# Altium footprint library 按键.PcbLib: 10 footprints
Each footprint in its own frame and in the unit in brackets; x right, y up, seen from the top. Pads: shape width x height; smd on the part's side, far side on the other; paste and mask are expansions set on the pad; w line width, h text height; cw(c..) or ccw(c..) is an arc to the next point about the centre after c.
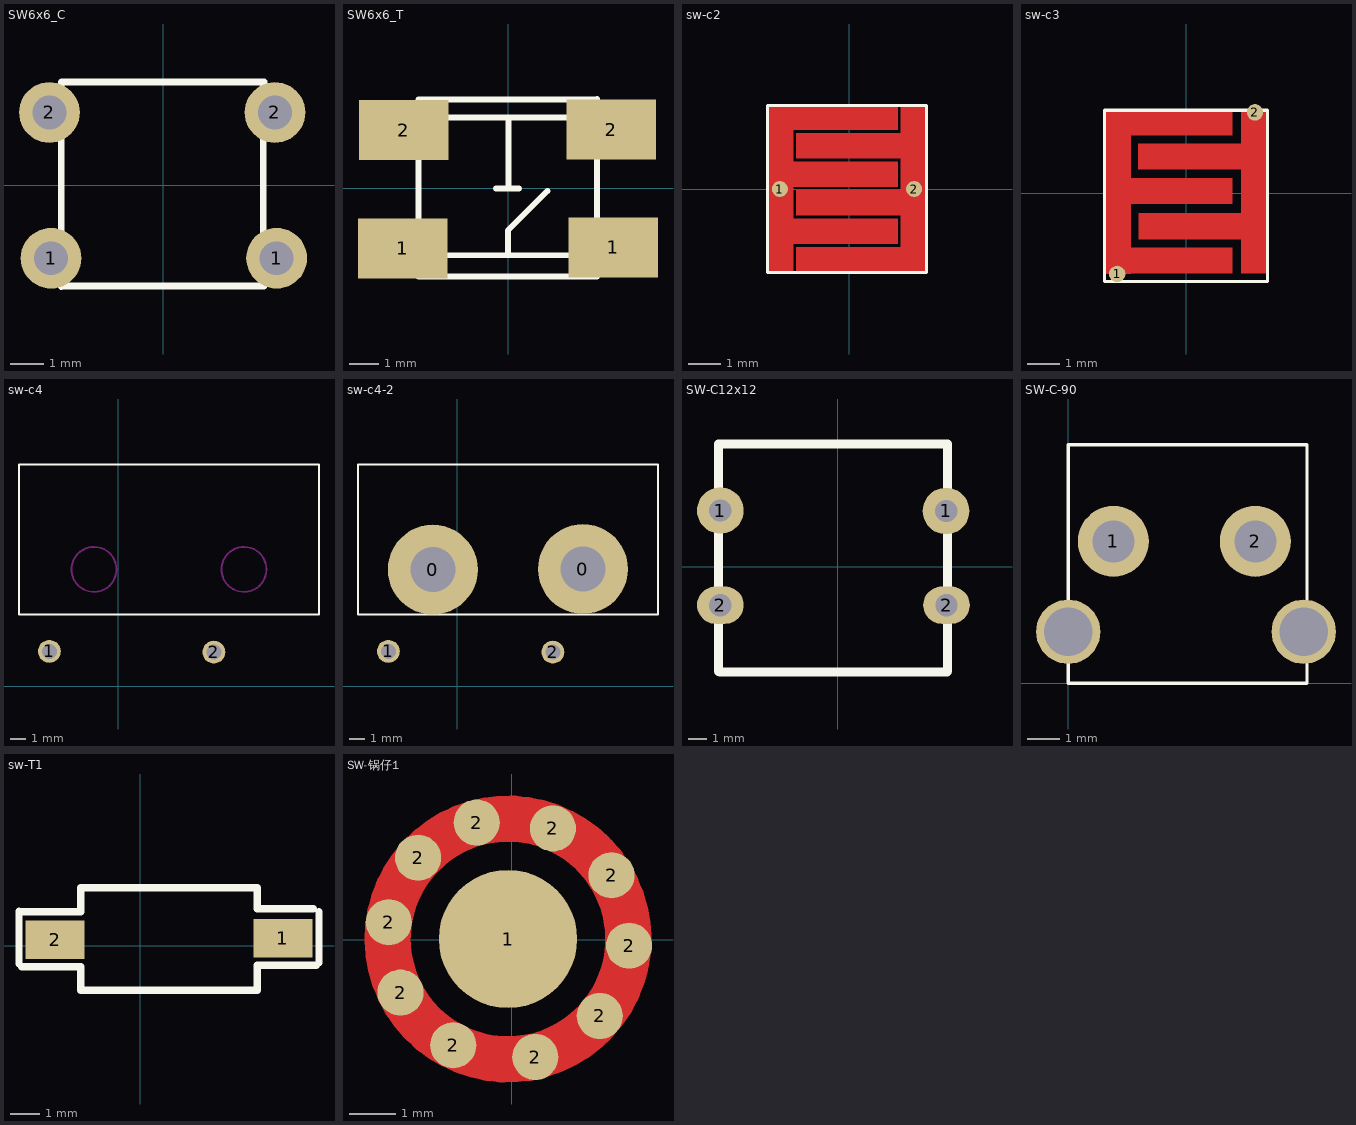
[diagram p0: the footprints below, top view; thin cyan lines are the x and y axes]

## SW6x6_C [mm]
pads (4):
  round 1.8 hole 1: 1(-3.314,-2.157) 1(3.365,-2.157) 2(-3.365,2.157) 2(3.314,2.157)
Top Overlay:
  lines w0.2: -3.013,-3.007 -3.013,2.993 ; -3.006,-2.979 2.994,-2.979 ; -3.004,3.057 2.996,3.057 ; 2.972,-2.952 2.972,3.048

## SW6x6_T [mm]
pads (4):
  rect 3x2 smd: 1(-3.55,-2.016) 1(3.524,-1.982) 2(-3.516,1.962) 2(3.456,1.979)
Top Overlay:
  lines w0.2: -2.963,2.38 2.921,2.38 ; -2.948,-2.243 2.885,-2.243 ; -0.419,0 0.356,0 ; -0.014,-2.184 -0.014,-1.405 1.307,-0.084 ; 0,0 0,2.25 ; 0,0.057 0,2.168 ; 2.929,2.993 -3.013,2.993 -3.013,-2.952 2.972,-2.952 2.972,3

## sw-c2 [mm]
pads (2):
  round 0.5 smd: 1(-2.159,0) 2(2.032,0)
Top Layer:
  rectangle: -1.905,1.841 1.524,2.603
  region: 2.413,-2.603 2.413,2.604 1.613,2.604 1.613,-2.603
  rectangle: -1.651,0.953 2.032,1.753
  rectangle: -1.778,0.064 1.524,0.864
  rectangle: -1.651,-0.826 2.159,-0.025
  rectangle: -1.778,-1.714 1.524,-0.914
  rectangle: -1.651,-2.603 2.159,-1.803
  region: -1.74,-2.603 -1.74,2.604 -2.54,2.604 -2.54,-2.603
Top Overlay:
  lines w0.1: -2.54,-2.603 -2.54,2.603 -2.413,2.603 2.413,2.603 2.413,-2.603 -2.54,-2.603

## sw-c3 [mm]
pads (2):
  round 0.5 smd: 1(-2.095,-2.456) 2(2.095,2.456)
Top Layer:
  rectangle: -1.459,0.714 1.843,1.514
  region: -1.677,-2.452 -1.677,2.52 -2.477,2.52 -2.477,-2.452
  rectangle: -1.442,-1.404 1.86,-0.604
  rectangle: -2.392,-2.449 1.418,-1.649
  rectangle: -1.884,-0.332 1.418,0.468
  region: 2.476,-2.445 2.476,2.52 1.676,2.52 1.676,-2.445
  rectangle: -1.841,1.757 1.415,2.519
Top Overlay:
  lines w0.1: -2.476,-2.688 2.476,-2.688 2.476,2.519 -2.349,2.519 -2.476,2.519 -2.476,-2.688
Top Solder:
  rectangle: -2.959,-2.816 2.836,3.069

## sw-c4 [mil]
pads (2):
  round 60 hole 39.37: 1(-180.35,91.02) 2(251.38,88.9)
Top Overlay:
  circle w5: c-181.29,89.54 r15.75
  circle w5: c251.78,89.54 r15.75
  lines w5: -260.03,187.97 527.37,187.97 527.37,581.67 -260.03,581.67 -260.03,187.97
Keep-Out Layer:
  circle w5: c330.52,306.08 r59.06
  circle w5: c-63.18,306.08 r59.06

## sw-c4-2 [mm]
pads (4):
  round 6 hole 3: 0(-1.617,7.758) 0(8.393,7.801)
  round 1.524 hole 1: 1(-4.581,2.312) 2(6.385,2.258)
Top Overlay:
  lines w0.127: -6.605,4.774 -6.605,14.774 13.395,14.774 13.395,4.774 -6.605,4.774
Keep-Out Layer:
  circle w0.127: c-1.605,7.774 r1.5
  circle w0.127: c8.395,7.774 r1.5

## SW-C12x12 [mm]
pads (4):
  round 2.5 hole 1.2: 1(-6.269,3.003) 1(5.804,2.978)
  oval 2.5x2 hole 1.2: 2(-6.269,-2.061) 2(5.829,-2.061)
Top Overlay:
  lines w0.5: -6.369,-5.587 -6.369,6.563 ; -6.344,6.563 5.806,6.563 ; -6.294,-5.637 5.856,-5.637 ; 5.881,-5.587 5.881,6.563

## SW-C-90 [mm]
pads (4):
  round 2.2 hole 1.3: 1(1.4,4.4) 2(5.8,4.4)
  round 2 hole 1.5: ""(0,1.6) ""(7.3,1.6)
Top Overlay:
  lines w0.1: 0,0 0,7.4 7.4,7.4 7.4,0 0,0

## sw-T1 [mm]
pads (2):
  rect 2x1.3 smd: 1(4.85,0.25) 2(-2.9,0.2)
Top Overlay:
  lines w0.254: -4.125,-0.625 -4.125,1.175 ; -4.1,1.15 -2.025,1.15 -2.025,1.975 3.975,1.975 3.975,1.25 5.875,1.25 ; -4.025,-0.725 -2.025,-0.725 -2.025,-1.525 3.975,-1.525 3.975,-0.675 5.975,-0.675 ; 6.075,-0.575 6.075,1.15

## SW-锅仔1 [mm]
pads (12):
  round 3 smd: 1(-0.084,0.017)
  round 1 smd: 2(-2.667,0.381) 2(-2.413,-1.143) 2(-2.032,1.778) 2(-1.27,-2.286) 2(-0.762,2.54) 2(0.508,-2.54) 2(0.889,2.413) 2(1.905,-1.651) 2(2.159,1.397) 2(2.54,-0.127)
  round 6.5 on Top Solder: ""(-0.084,0.017)
Top Layer:
  lines w0.5: -0.084,0.017 0.271,0.017
  lines w1: 2.523,0.017 cw(c-0.084,0.017) 2.523,0.06